# EAGLE library part 0548190572 (library Badge_v202004081200_Eagle_Library_regex)
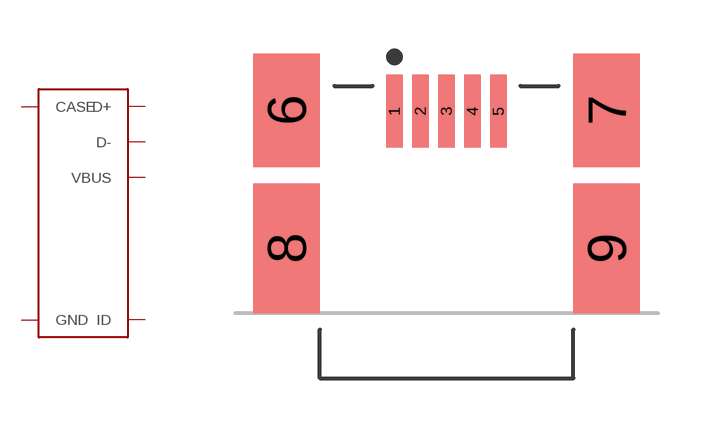
[diagram p6: symbol with the pads of MOLEX_0548190572; footprint MOLEX_0548190572]

Designator prefix J

## 0548190572 (DATASHEET: http://datasheets.diptrace.com/con_usb/548190572_sd.pdf; MANUFACTURER: Molex)  [MOLEX_0548190572]
1  VBUS  pwr
2  D-
3  D+
4  ID  pas
5  GND  pwr
6  CASE  pwr
7  CASE  pwr
8  CASE  pwr

## Footprint MOLEX_0548190572 (pad centres in mm)
smd 0.5 x 2.25: 1 -1.6,2.225; 2 -0.8,2.225; 3 0,2.225; 4 0.8,2.225; 5 1.6,2.225
smd 2.05 x 3.5: 6 -4.925,2.25; 7 4.925,2.25
smd 2.05 x 4: 8 -4.925,-2; 9 4.925,-2